# EAGLE library part S6695-01 (library DPX-DIODES)
Si PIN Quadrant photodiode Source: http://sales.hamamatsu.com/assets/pdf/parts_S/S7379-01_etc.pdf
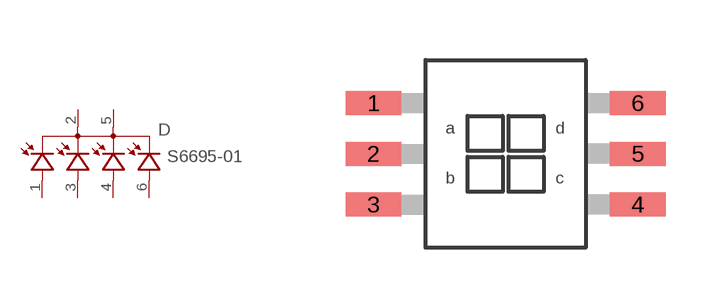
[diagram p9: symbol with the pads of S6695-01; footprint S6695-01]

Designator prefix D

## S6695-01  [S6695-01]
1  AA  pas
2  C1  pas
3  AB  pas
4  AC  pas
5  C2  pas
6  AD  pas

## Footprint S6695-01 (pad centres in mm)
Si PIN Quadrant photodiode Source: http://sales.hamamatsu.com/assets/pdf/parts_S/S7379-01_etc.pdf
smd 1.4 x 0.6: 1 -3.305,1.27; 2 -3.305,0; 3 -3.305,-1.27; 4 3.305,-1.27; 5 3.305,0; 6 3.305,1.27